# Altium schematic symbol library 10CX220YF780E6G.SchLib: 1 symbol
Pins are listed as number, name and electrical type; pins without a type are passive.

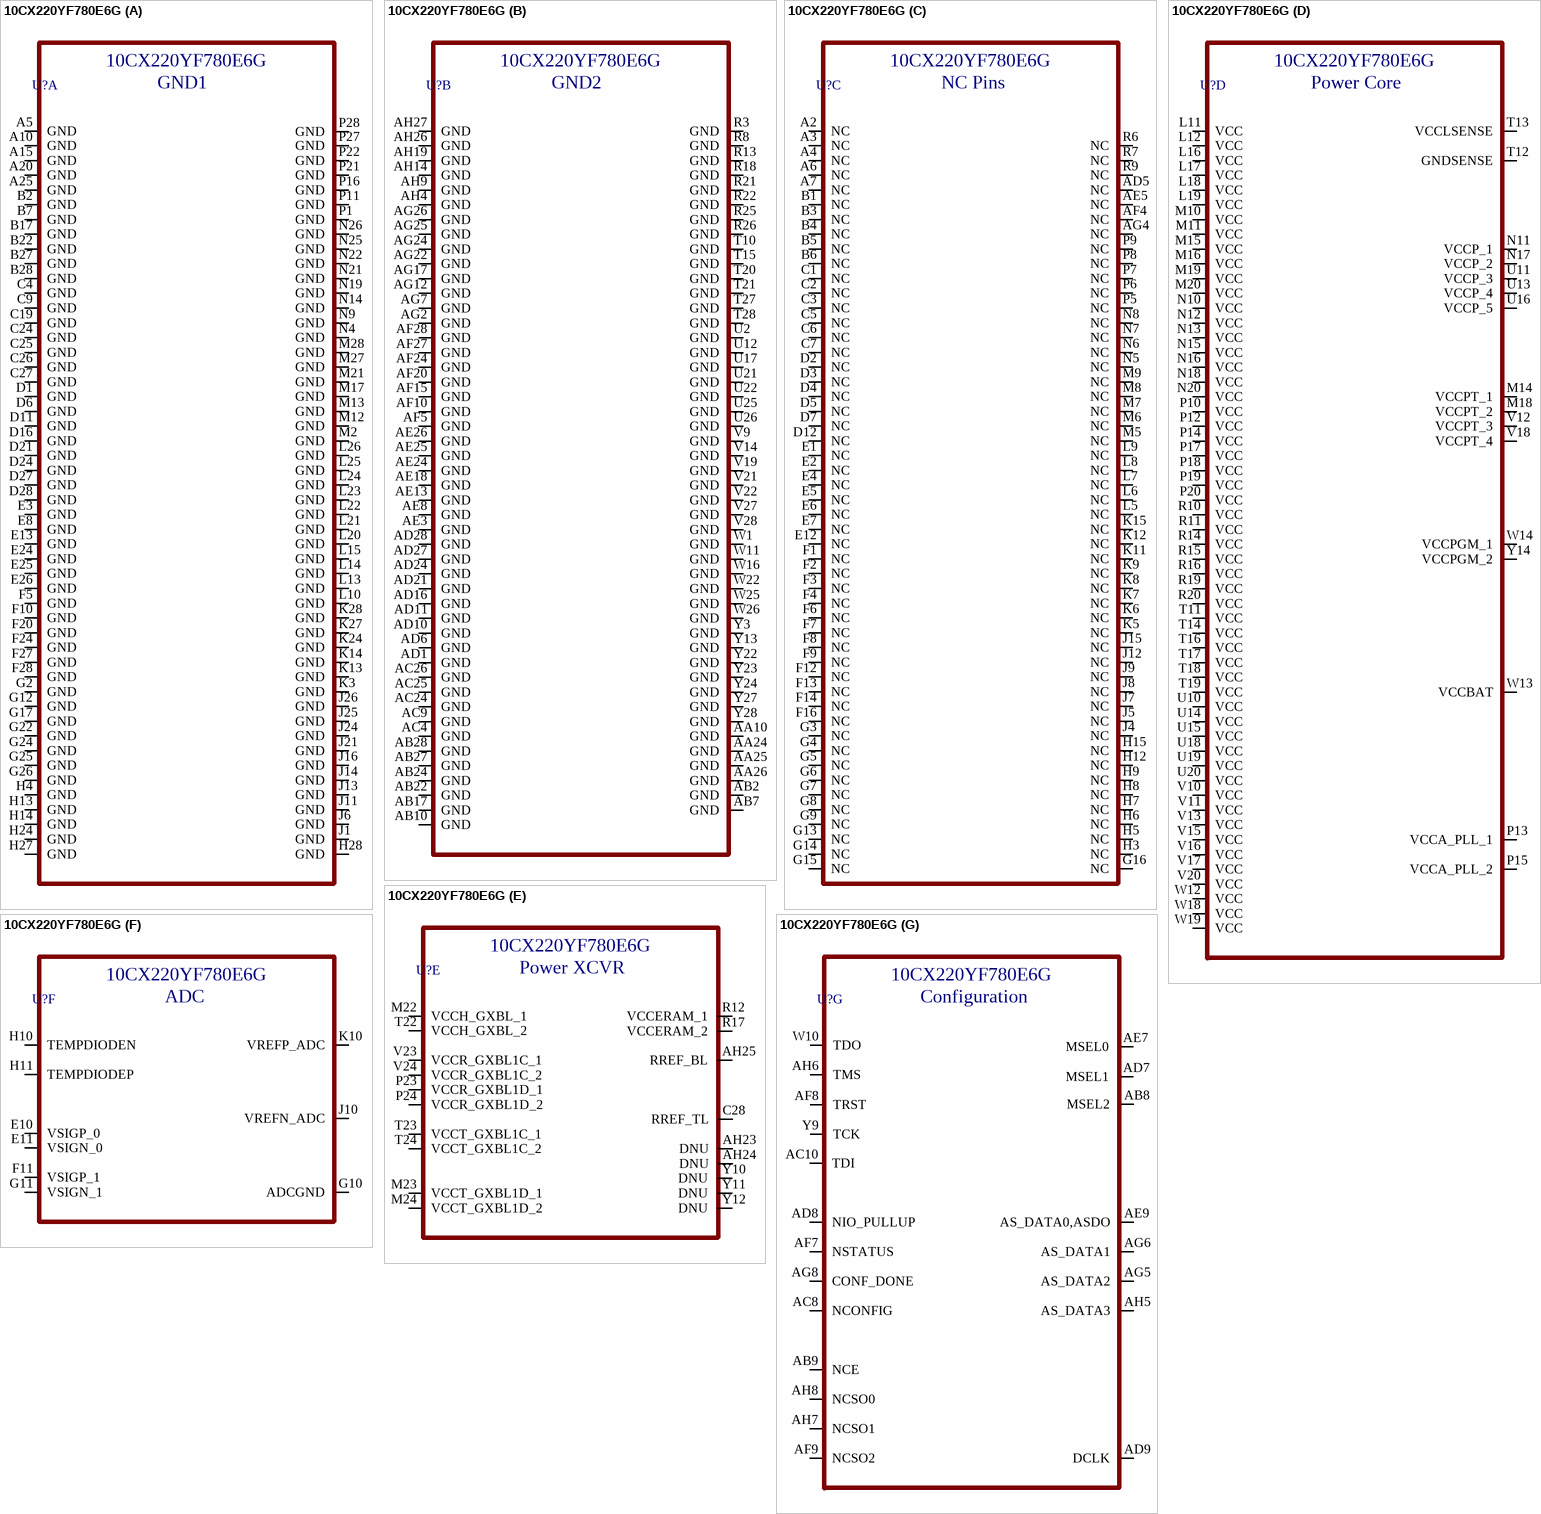
[diagram p0: symbol 10CX220YF780E6G]

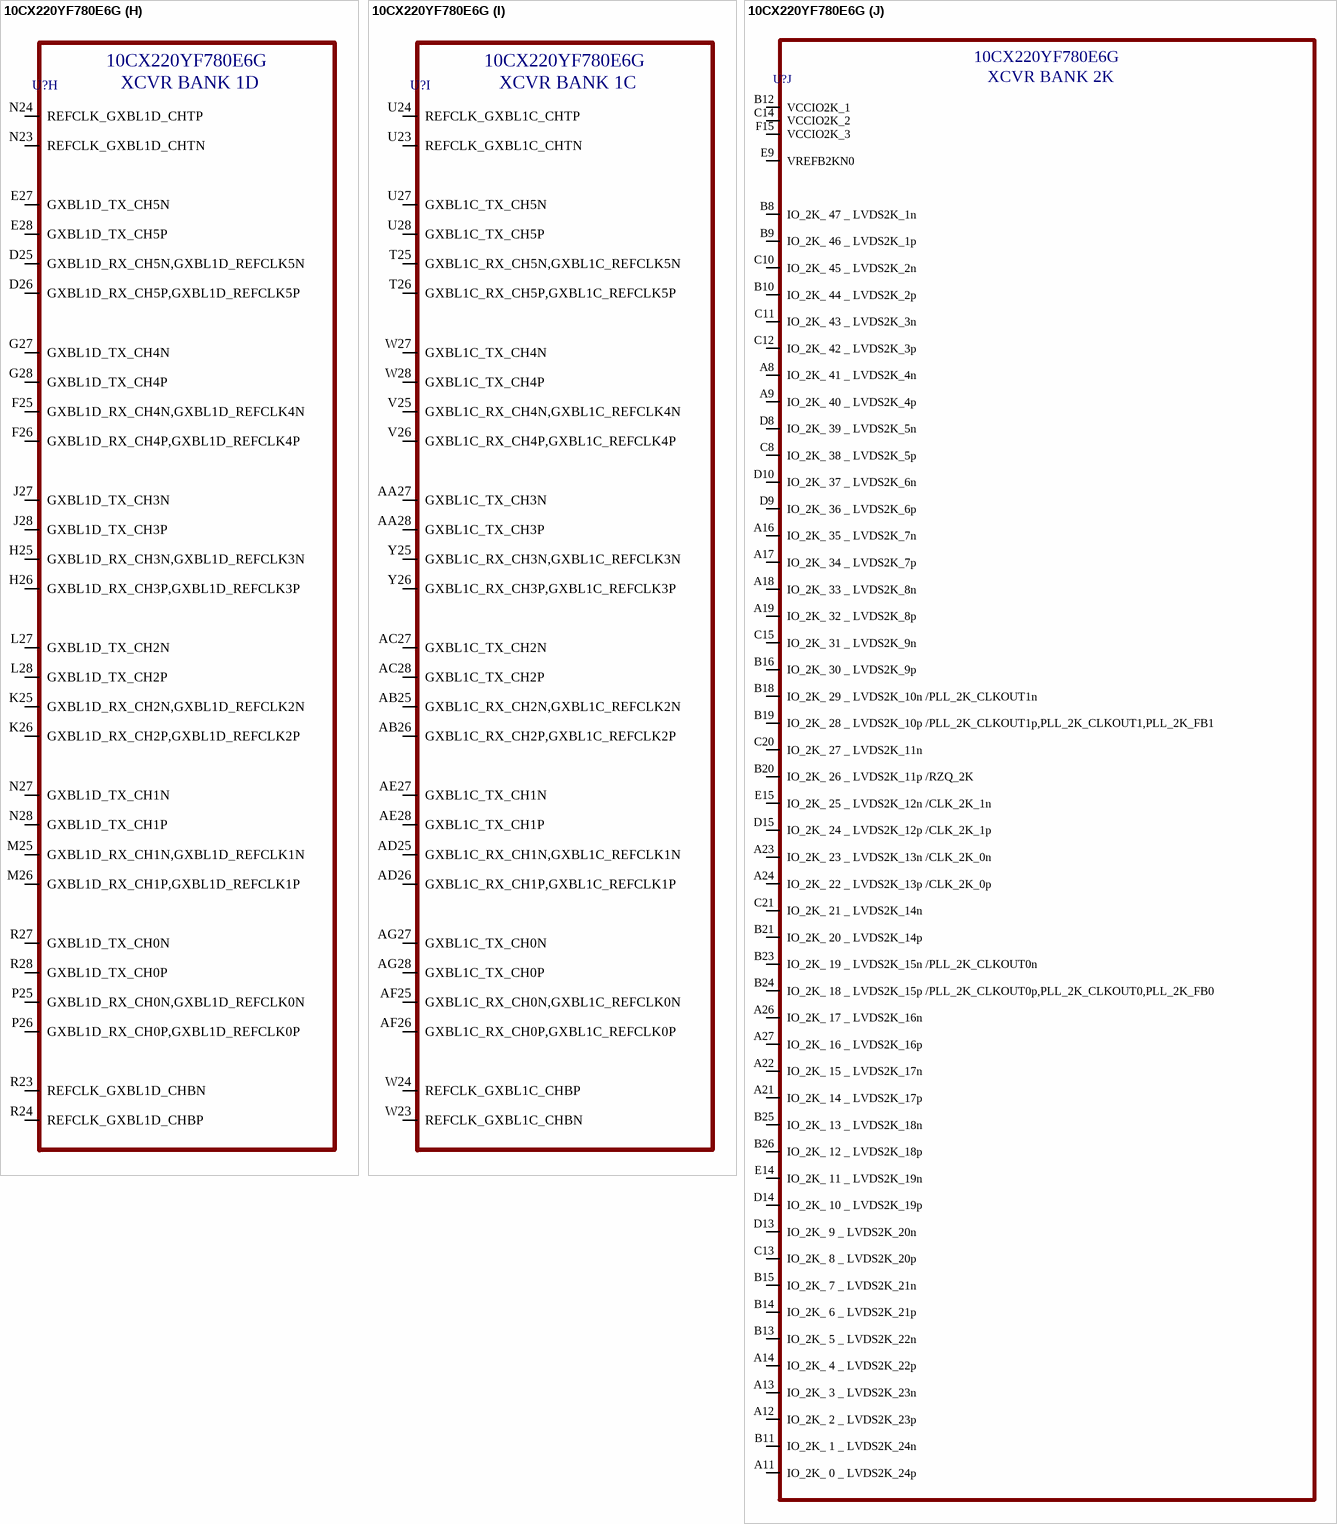
[diagram p1: symbol 10CX220YF780E6G]

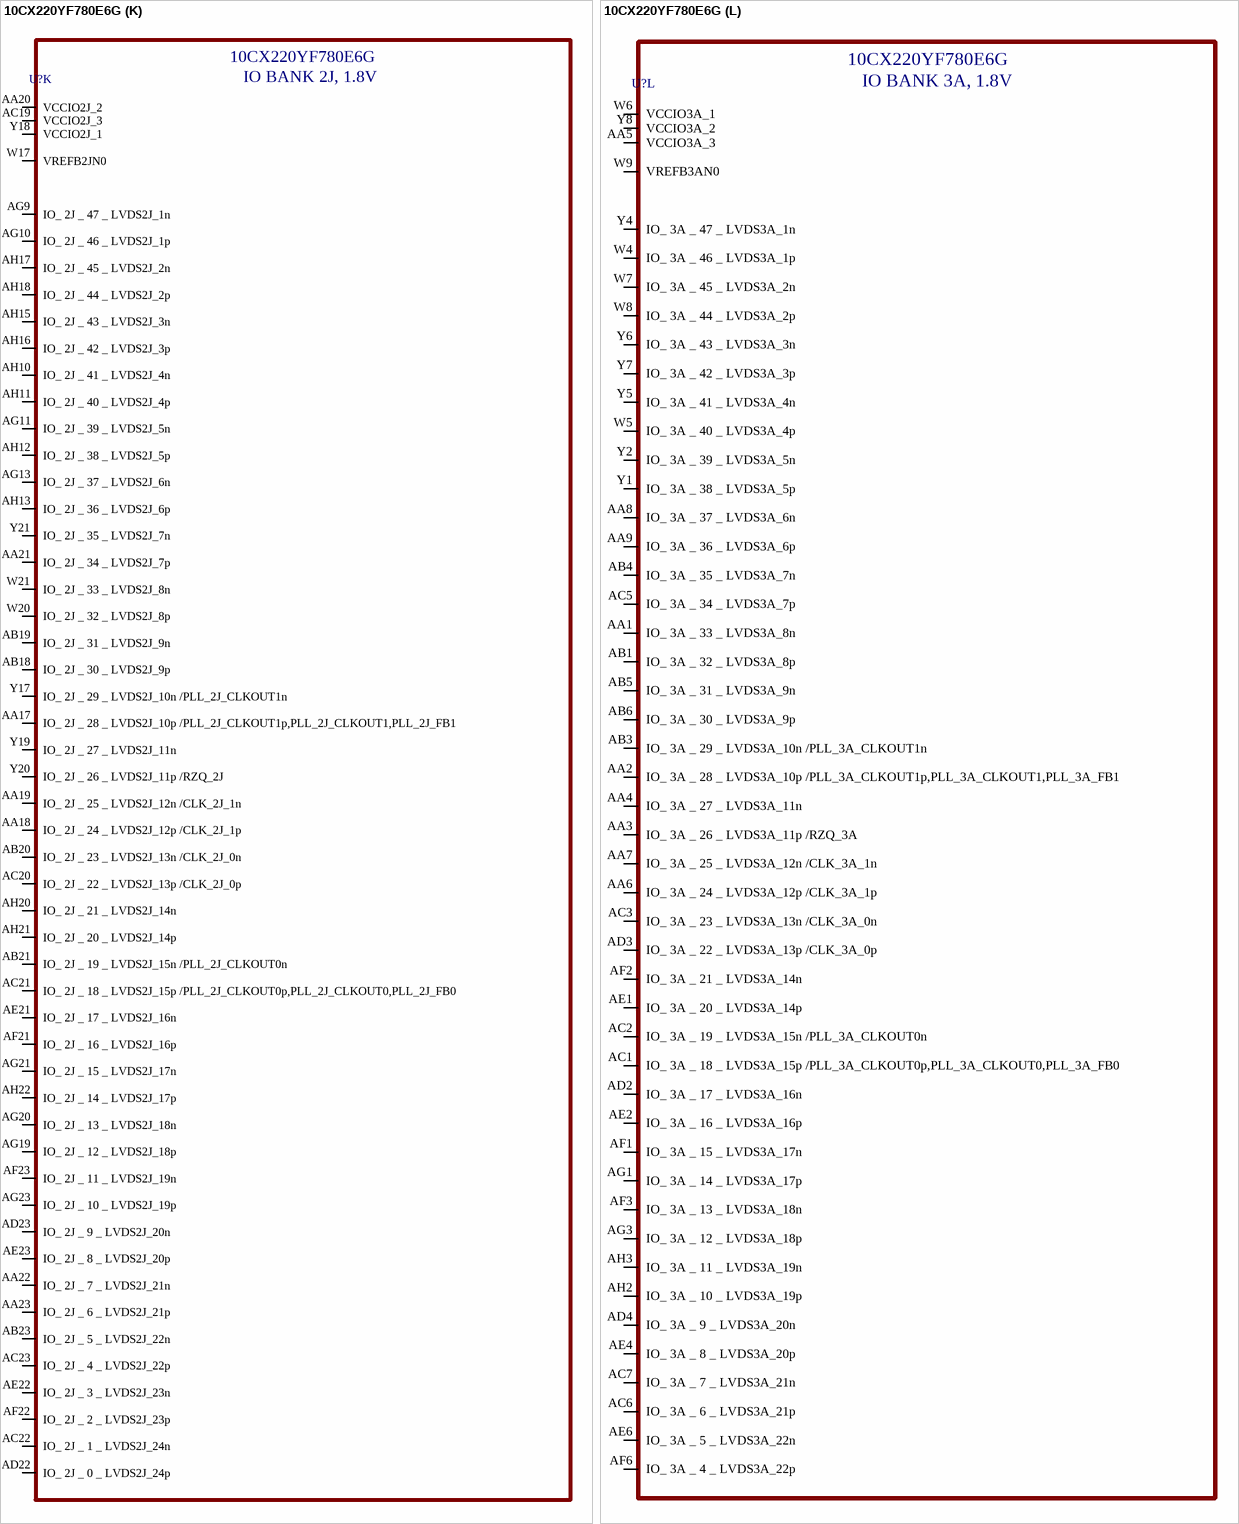
[diagram p2: symbol 10CX220YF780E6G]

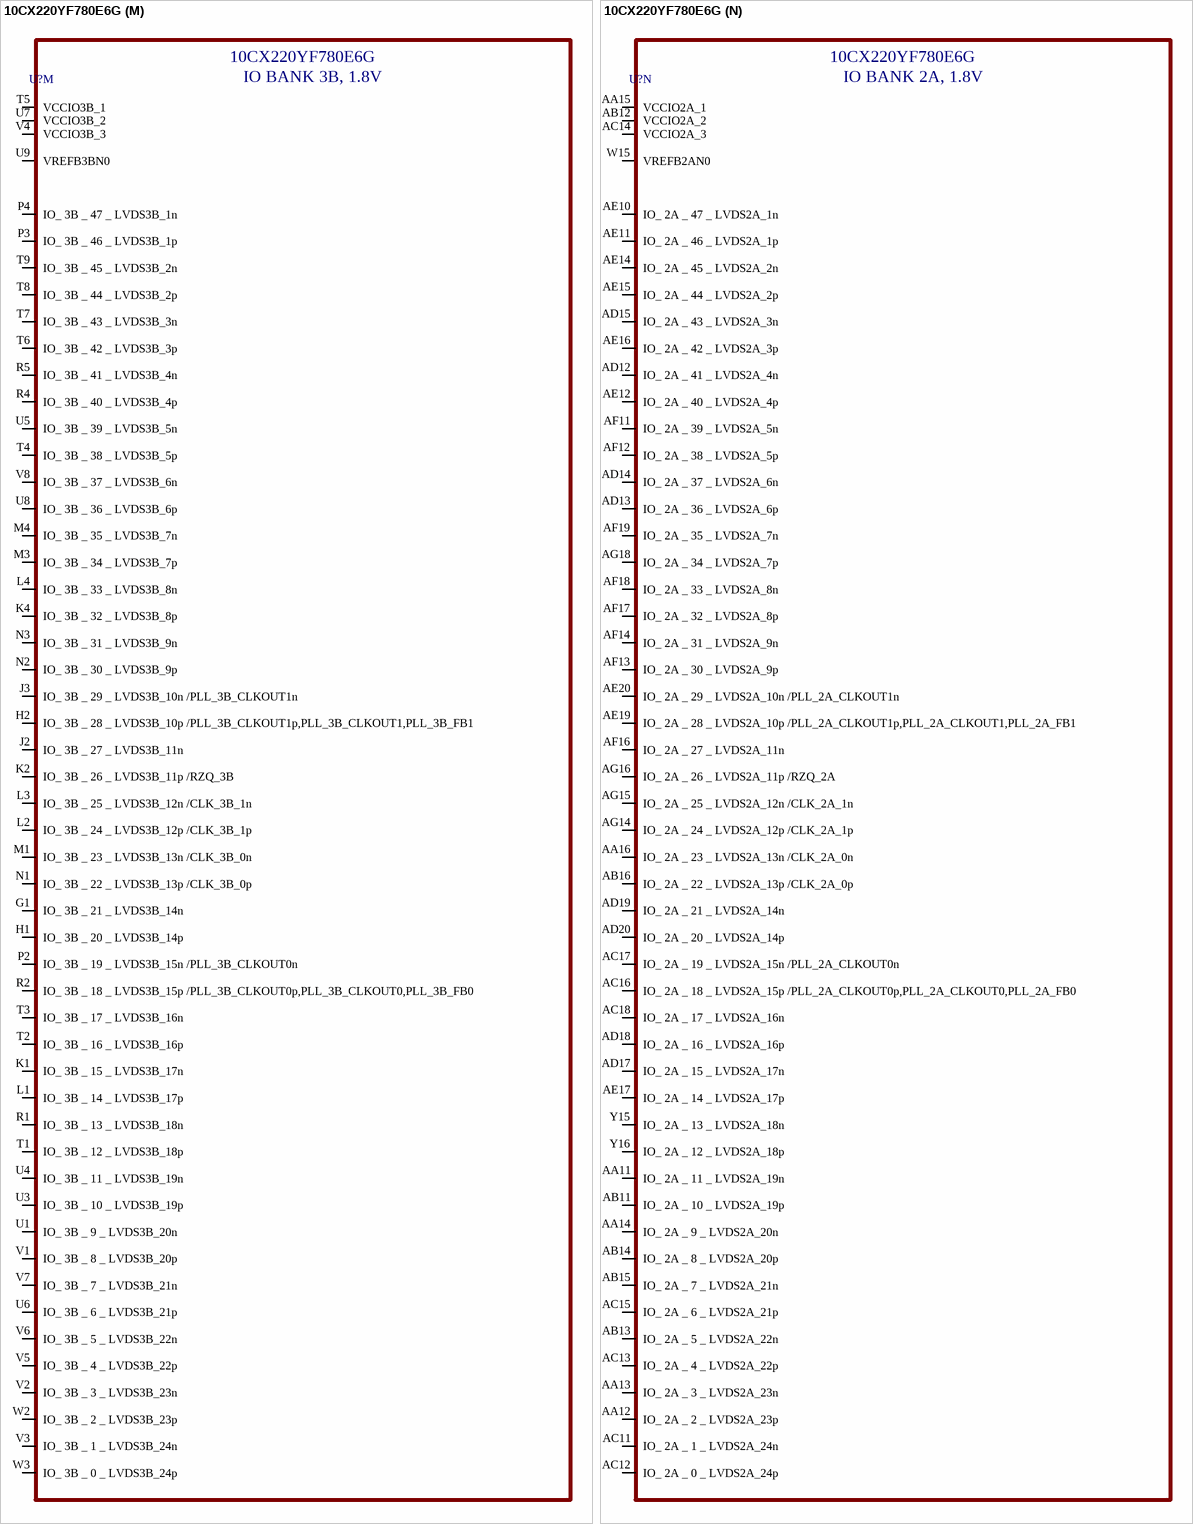
[diagram p3: symbol 10CX220YF780E6G]

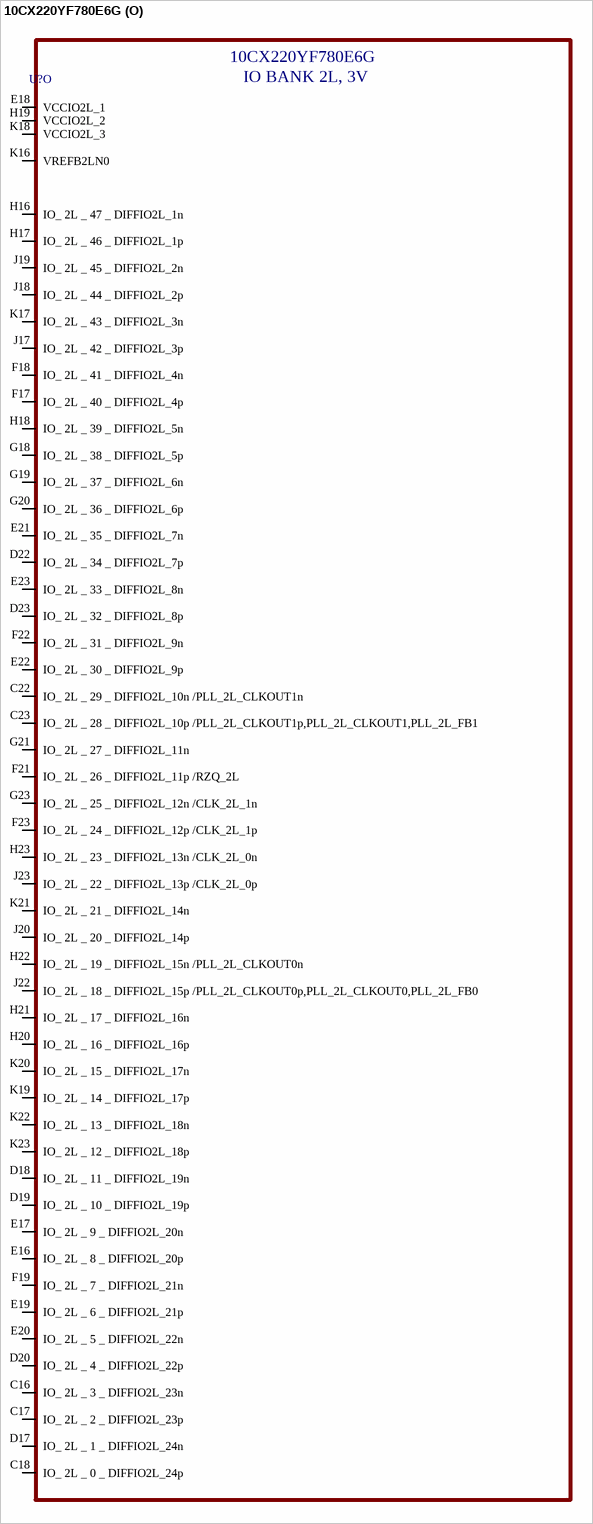
[diagram p4: symbol 10CX220YF780E6G]

## 10CX220YF780E6G
designator U?
part A pins: A5 GND, A10 GND, A15 GND, A20 GND, A25 GND, B2 GND, B7 GND, B17 GND, B22 GND, B27 GND, B28 GND, C4 GND, C9 GND, C19 GND, C24 GND, C25 GND, C26 GND, C27 GND, D1 GND, D6 GND, D11 GND, D16 GND, D21 GND, D24 GND, D27 GND, D28 GND, E3 GND, E8 GND, E13 GND, E24 GND, E25 GND, E26 GND, F5 GND, F10 GND, F20 GND, F24 GND, F27 GND, F28 GND, G2 GND, G12 GND, G17 GND, G22 GND, G24 GND, G25 GND, G26 GND, H4 GND, H13 GND, H14 GND, H24 GND, H27 GND, H28 GND, J1 GND, J6 GND, J11 GND, J13 GND, J14 GND, J16 GND, J21 GND, J24 GND, J25 GND, J26 GND, K3 GND, K13 GND, K14 GND, K24 GND, K27 GND, K28 GND, L10 GND, L13 GND, L14 GND, L15 GND, L20 GND, L21 GND, L22 GND, L23 GND, L24 GND, L25 GND, L26 GND, M2 GND, M12 GND, M13 GND, M17 GND, M21 GND, M27 GND, M28 GND, N4 GND, N9 GND, N14 GND, N19 GND, N21 GND, N22 GND, N25 GND, N26 GND, P1 GND, P11 GND, P16 GND, P21 GND, P22 GND, P27 GND, P28 GND
part B pins: AA10 GND, AA24 GND, AA25 GND, AA26 GND, AB2 GND, AB7 GND, AB10 GND, AB17 GND, AB22 GND, AB24 GND, AB27 GND, AB28 GND, AC4 GND, AC9 GND, AC24 GND, AC25 GND, AC26 GND, AD1 GND, AD6 GND, AD10 GND, AD11 GND, AD16 GND, AD21 GND, AD24 GND, AD27 GND, AD28 GND, AE3 GND, AE8 GND, AE13 GND, AE18 GND, AE24 GND, AE25 GND, AE26 GND, AF5 GND, AF10 GND, AF15 GND, AF20 GND, AF24 GND, AF27 GND, AF28 GND, AG2 GND, AG7 GND, AG12 GND, AG17 GND, AG22 GND, AG24 GND, AG25 GND, AG26 GND, AH4 GND, AH9 GND, AH14 GND, AH19 GND, AH26 GND, AH27 GND, R3 GND, R8 GND, R13 GND, R18 GND, R21 GND, R22 GND, R25 GND, R26 GND, T10 GND, T15 GND, T20 GND, T21 GND, T27 GND, T28 GND, U2 GND, U12 GND, U17 GND, U21 GND, U22 GND, U25 GND, U26 GND, V9 GND, V14 GND, V19 GND, V21 GND, V22 GND, V27 GND, V28 GND, W1 GND, W11 GND, W16 GND, W22 GND, W25 GND, W26 GND, Y3 GND, Y13 GND, Y22 GND, Y23 GND, Y24 GND, Y27 GND, Y28 GND
part C pins: A2 NC, A3 NC, A4 NC, A6 NC, A7 NC, AD5 NC, AE5 NC, AF4 NC, AG4 NC, B1 NC, B3 NC, B4 NC, B5 NC, B6 NC, C1 NC, C2 NC, C3 NC, C5 NC, C6 NC, C7 NC, D2 NC, D3 NC, D4 NC, D5 NC, D7 NC, D12 NC, E1 NC, E2 NC, E4 NC, E5 NC, E6 NC, E7 NC, E12 NC, F1 NC, F2 NC, F3 NC, F4 NC, F6 NC, F7 NC, F8 NC, F9 NC, F12 NC, F13 NC, F14 NC, F16 NC, G3 NC, G4 NC, G5 NC, G6 NC, G7 NC, G8 NC, G9 NC, G13 NC, G14 NC, G15 NC, G16 NC, H3 NC, H5 NC, H6 NC, H7 NC, H8 NC, H9 NC, H12 NC, H15 NC, J4 NC, J5 NC, J7 NC, J8 NC, J9 NC, J12 NC, J15 NC, K5 NC, K6 NC, K7 NC, K8 NC, K9 NC, K11 NC, K12 NC, K15 NC, L5 NC, L6 NC, L7 NC, L8 NC, L9 NC, M5 NC, M6 NC, M7 NC, M8 NC, M9 NC, N5 NC, N6 NC, N7 NC, N8 NC, P5 NC, P6 NC, P7 NC, P8 NC, P9 NC, R6 NC, R7 NC, R9 NC
part D pins: L11 VCC, L12 VCC, L16 VCC, L17 VCC, L18 VCC, L19 VCC, M10 VCC, M11 VCC, M14 VCCPT_1, M15 VCC, M16 VCC, M18 VCCPT_2, M19 VCC, M20 VCC, N10 VCC, N11 VCCP_1, N12 VCC, N13 VCC, N15 VCC, N16 VCC, N17 VCCP_2, N18 VCC, N20 VCC, P10 VCC, P12 VCC, P13 VCCA_PLL_1, P14 VCC, P15 VCCA_PLL_2, P17 VCC, P18 VCC, P19 VCC, P20 VCC, R10 VCC, R11 VCC, R14 VCC, R15 VCC, R16 VCC, R19 VCC, R20 VCC, T11 VCC, T12 GNDSENSE, T13 VCCLSENSE, T14 VCC, T16 VCC, T17 VCC, T18 VCC, T19 VCC, U10 VCC, U11 VCCP_3, U13 VCCP_4, U14 VCC, U15 VCC, U16 VCCP_5, U18 VCC, U19 VCC, U20 VCC, V10 VCC, V11 VCC, V12 VCCPT_3, V13 VCC, V15 VCC, V16 VCC, V17 VCC, V18 VCCPT_4, V20 VCC, W12 VCC, W13 VCCBAT, W14 VCCPGM_1, W18 VCC, W19 VCC, Y14 VCCPGM_2
part E pins: AH23 DNU, AH24 DNU, AH25 RREF_BL, C28 RREF_TL, M22 VCCH_GXBL_1, M23 VCCT_GXBL1D_1, M24 VCCT_GXBL1D_2, P23 VCCR_GXBL1D_1, P24 VCCR_GXBL1D_2, R12 VCCERAM_1, R17 VCCERAM_2, T22 VCCH_GXBL_2, T23 VCCT_GXBL1C_1, T24 VCCT_GXBL1C_2, V23 VCCR_GXBL1C_1, V24 VCCR_GXBL1C_2, Y10 DNU, Y11 DNU, Y12 DNU
part F pins: E10 VSIGP_0, E11 VSIGN_0, F11 VSIGP_1, G10 ADCGND, G11 VSIGN_1, H10 TEMPDIODEN, H11 TEMPDIODEP, J10 VREFN_ADC, K10 VREFP_ADC
part G pins: AB8 MSEL2, AB9 NCE, AC8 NCONFIG, AC10 TDI, AD7 MSEL1, AD8 NIO_PULLUP, AD9 DCLK, AE7 MSEL0, AE9 AS_DATA0,ASDO, AF7 NSTATUS, AF8 TRST, AF9 NCSO2, AG5 AS_DATA2, AG6 AS_DATA1, AG8 CONF_DONE, AH5 AS_DATA3, AH6 TMS, AH7 NCSO1, AH8 NCSO0, W10 TDO, Y9 TCK
part H pins: D25 GXBL1D_RX_CH5N,GXBL1D_REFCLK5N, D26 GXBL1D_RX_CH5P,GXBL1D_REFCLK5P, E27 GXBL1D_TX_CH5N, E28 GXBL1D_TX_CH5P, F25 GXBL1D_RX_CH4N,GXBL1D_REFCLK4N, F26 GXBL1D_RX_CH4P,GXBL1D_REFCLK4P, G27 GXBL1D_TX_CH4N, G28 GXBL1D_TX_CH4P, H25 GXBL1D_RX_CH3N,GXBL1D_REFCLK3N, H26 GXBL1D_RX_CH3P,GXBL1D_REFCLK3P, J27 GXBL1D_TX_CH3N, J28 GXBL1D_TX_CH3P, K25 GXBL1D_RX_CH2N,GXBL1D_REFCLK2N, K26 GXBL1D_RX_CH2P,GXBL1D_REFCLK2P, L27 GXBL1D_TX_CH2N, L28 GXBL1D_TX_CH2P, M25 GXBL1D_RX_CH1N,GXBL1D_REFCLK1N, M26 GXBL1D_RX_CH1P,GXBL1D_REFCLK1P, N23 REFCLK_GXBL1D_CHTN, N24 REFCLK_GXBL1D_CHTP, N27 GXBL1D_TX_CH1N, N28 GXBL1D_TX_CH1P, P25 GXBL1D_RX_CH0N,GXBL1D_REFCLK0N, P26 GXBL1D_RX_CH0P,GXBL1D_REFCLK0P, R23 REFCLK_GXBL1D_CHBN, R24 REFCLK_GXBL1D_CHBP, R27 GXBL1D_TX_CH0N, R28 GXBL1D_TX_CH0P
part I pins: AA27 GXBL1C_TX_CH3N, AA28 GXBL1C_TX_CH3P, AB25 GXBL1C_RX_CH2N,GXBL1C_REFCLK2N, AB26 GXBL1C_RX_CH2P,GXBL1C_REFCLK2P, AC27 GXBL1C_TX_CH2N, AC28 GXBL1C_TX_CH2P, AD25 GXBL1C_RX_CH1N,GXBL1C_REFCLK1N, AD26 GXBL1C_RX_CH1P,GXBL1C_REFCLK1P, AE27 GXBL1C_TX_CH1N, AE28 GXBL1C_TX_CH1P, AF25 GXBL1C_RX_CH0N,GXBL1C_REFCLK0N, AF26 GXBL1C_RX_CH0P,GXBL1C_REFCLK0P, AG27 GXBL1C_TX_CH0N, AG28 GXBL1C_TX_CH0P, T25 GXBL1C_RX_CH5N,GXBL1C_REFCLK5N, T26 GXBL1C_RX_CH5P,GXBL1C_REFCLK5P, U23 REFCLK_GXBL1C_CHTN, U24 REFCLK_GXBL1C_CHTP, U27 GXBL1C_TX_CH5N, U28 GXBL1C_TX_CH5P, V25 GXBL1C_RX_CH4N,GXBL1C_REFCLK4N, V26 GXBL1C_RX_CH4P,GXBL1C_REFCLK4P, W23 REFCLK_GXBL1C_CHBN, W24 REFCLK_GXBL1C_CHBP, W27 GXBL1C_TX_CH4N, W28 GXBL1C_TX_CH4P, Y25 GXBL1C_RX_CH3N,GXBL1C_REFCLK3N, Y26 GXBL1C_RX_CH3P,GXBL1C_REFCLK3P
part J pins: A8 IO_2K_ 41 _ LVDS2K_4n , A9 IO_2K_ 40 _ LVDS2K_4p , A11 IO_2K_ 0 _ LVDS2K_24p , A12 IO_2K_ 2 _ LVDS2K_23p , A13 IO_2K_ 3 _ LVDS2K_23n , A14 IO_2K_ 4 _ LVDS2K_22p , A16 IO_2K_ 35 _ LVDS2K_7n , A17 IO_2K_ 34 _ LVDS2K_7p , A18 IO_2K_ 33 _ LVDS2K_8n , A19 IO_2K_ 32 _ LVDS2K_8p , A21 IO_2K_ 14 _ LVDS2K_17p , A22 IO_2K_ 15 _ LVDS2K_17n , A23 IO_2K_ 23 _ LVDS2K_13n /CLK_2K_0n, A24 IO_2K_ 22 _ LVDS2K_13p /CLK_2K_0p, A26 IO_2K_ 17 _ LVDS2K_16n , A27 IO_2K_ 16 _ LVDS2K_16p , B8 IO_2K_ 47 _ LVDS2K_1n , B9 IO_2K_ 46 _ LVDS2K_1p , B10 IO_2K_ 44 _ LVDS2K_2p , B11 IO_2K_ 1 _ LVDS2K_24n , B12 VCCIO2K_1, B13 IO_2K_ 5 _ LVDS2K_22n , B14 IO_2K_ 6 _ LVDS2K_21p , B15 IO_2K_ 7 _ LVDS2K_21n , B16 IO_2K_ 30 _ LVDS2K_9p , B18 IO_2K_ 29 _ LVDS2K_10n /PLL_2K_CLKOUT1n, B19 IO_2K_ 28 _ LVDS2K_10p /PLL_2K_CLKOUT1p,PLL_2K_CLKOUT1,PLL_2K_FB1, B20 IO_2K_ 26 _ LVDS2K_11p /RZQ_2K, B21 IO_2K_ 20 _ LVDS2K_14p , B23 IO_2K_ 19 _ LVDS2K_15n /PLL_2K_CLKOUT0n, B24 IO_2K_ 18 _ LVDS2K_15p /PLL_2K_CLKOUT0p,PLL_2K_CLKOUT0,PLL_2K_FB0, B25 IO_2K_ 13 _ LVDS2K_18n , B26 IO_2K_ 12 _ LVDS2K_18p , C8 IO_2K_ 38 _ LVDS2K_5p , C10 IO_2K_ 45 _ LVDS2K_2n , C11 IO_2K_ 43 _ LVDS2K_3n , C12 IO_2K_ 42 _ LVDS2K_3p , C13 IO_2K_ 8 _ LVDS2K_20p , C14 VCCIO2K_2, C15 IO_2K_ 31 _ LVDS2K_9n , C20 IO_2K_ 27 _ LVDS2K_11n , C21 IO_2K_ 21 _ LVDS2K_14n , D8 IO_2K_ 39 _ LVDS2K_5n , D9 IO_2K_ 36 _ LVDS2K_6p , D10 IO_2K_ 37 _ LVDS2K_6n , D13 IO_2K_ 9 _ LVDS2K_20n , D14 IO_2K_ 10 _ LVDS2K_19p , D15 IO_2K_ 24 _ LVDS2K_12p /CLK_2K_1p, E9 VREFB2KN0, E14 IO_2K_ 11 _ LVDS2K_19n , E15 IO_2K_ 25 _ LVDS2K_12n /CLK_2K_1n, F15 VCCIO2K_3
part K pins: AA17 IO_ 2J _ 28 _ LVDS2J_10p /PLL_2J_CLKOUT1p,PLL_2J_CLKOUT1,PLL_2J_FB1, AA18 IO_ 2J _ 24 _ LVDS2J_12p /CLK_2J_1p, AA19 IO_ 2J _ 25 _ LVDS2J_12n /CLK_2J_1n, AA20 VCCIO2J_2, AA21 IO_ 2J _ 34 _ LVDS2J_7p , AA22 IO_ 2J _ 7 _ LVDS2J_21n , AA23 IO_ 2J _ 6 _ LVDS2J_21p , AB18 IO_ 2J _ 30 _ LVDS2J_9p , AB19 IO_ 2J _ 31 _ LVDS2J_9n , AB20 IO_ 2J _ 23 _ LVDS2J_13n /CLK_2J_0n, AB21 IO_ 2J _ 19 _ LVDS2J_15n /PLL_2J_CLKOUT0n, AB23 IO_ 2J _ 5 _ LVDS2J_22n , AC19 VCCIO2J_3, AC20 IO_ 2J _ 22 _ LVDS2J_13p /CLK_2J_0p, AC21 IO_ 2J _ 18 _ LVDS2J_15p /PLL_2J_CLKOUT0p,PLL_2J_CLKOUT0,PLL_2J_FB0, AC22 IO_ 2J _ 1 _ LVDS2J_24n , AC23 IO_ 2J _ 4 _ LVDS2J_22p , AD22 IO_ 2J _ 0 _ LVDS2J_24p , AD23 IO_ 2J _ 9 _ LVDS2J_20n , AE21 IO_ 2J _ 17 _ LVDS2J_16n , AE22 IO_ 2J _ 3 _ LVDS2J_23n , AE23 IO_ 2J _ 8 _ LVDS2J_20p , AF21 IO_ 2J _ 16 _ LVDS2J_16p , AF22 IO_ 2J _ 2 _ LVDS2J_23p , AF23 IO_ 2J _ 11 _ LVDS2J_19n , AG9 IO_ 2J _ 47 _ LVDS2J_1n , AG10 IO_ 2J _ 46 _ LVDS2J_1p , AG11 IO_ 2J _ 39 _ LVDS2J_5n , AG13 IO_ 2J _ 37 _ LVDS2J_6n , AG19 IO_ 2J _ 12 _ LVDS2J_18p , AG20 IO_ 2J _ 13 _ LVDS2J_18n , AG21 IO_ 2J _ 15 _ LVDS2J_17n , AG23 IO_ 2J _ 10 _ LVDS2J_19p , AH10 IO_ 2J _ 41 _ LVDS2J_4n , AH11 IO_ 2J _ 40 _ LVDS2J_4p , AH12 IO_ 2J _ 38 _ LVDS2J_5p , AH13 IO_ 2J _ 36 _ LVDS2J_6p , AH15 IO_ 2J _ 43 _ LVDS2J_3n , AH16 IO_ 2J _ 42 _ LVDS2J_3p , AH17 IO_ 2J _ 45 _ LVDS2J_2n , AH18 IO_ 2J _ 44 _ LVDS2J_2p , AH20 IO_ 2J _ 21 _ LVDS2J_14n , AH21 IO_ 2J _ 20 _ LVDS2J_14p , AH22 IO_ 2J _ 14 _ LVDS2J_17p , W17 VREFB2JN0, W20 IO_ 2J _ 32 _ LVDS2J_8p , W21 IO_ 2J _ 33 _ LVDS2J_8n , Y17 IO_ 2J _ 29 _ LVDS2J_10n /PLL_2J_CLKOUT1n, Y18 VCCIO2J_1, Y19 IO_ 2J _ 27 _ LVDS2J_11n , Y20 IO_ 2J _ 26 _ LVDS2J_11p /RZQ_2J, Y21 IO_ 2J _ 35 _ LVDS2J_7n 
part L pins: AA1 IO_ 3A _ 33 _ LVDS3A_8n , AA2 IO_ 3A _ 28 _ LVDS3A_10p /PLL_3A_CLKOUT1p,PLL_3A_CLKOUT1,PLL_3A_FB1, AA3 IO_ 3A _ 26 _ LVDS3A_11p /RZQ_3A, AA4 IO_ 3A _ 27 _ LVDS3A_11n , AA5 VCCIO3A_3, AA6 IO_ 3A _ 24 _ LVDS3A_12p /CLK_3A_1p, AA7 IO_ 3A _ 25 _ LVDS3A_12n /CLK_3A_1n, AA8 IO_ 3A _ 37 _ LVDS3A_6n , AA9 IO_ 3A _ 36 _ LVDS3A_6p , AB1 IO_ 3A _ 32 _ LVDS3A_8p , AB3 IO_ 3A _ 29 _ LVDS3A_10n /PLL_3A_CLKOUT1n, AB4 IO_ 3A _ 35 _ LVDS3A_7n , AB5 IO_ 3A _ 31 _ LVDS3A_9n , AB6 IO_ 3A _ 30 _ LVDS3A_9p , AC1 IO_ 3A _ 18 _ LVDS3A_15p /PLL_3A_CLKOUT0p,PLL_3A_CLKOUT0,PLL_3A_FB0, AC2 IO_ 3A _ 19 _ LVDS3A_15n /PLL_3A_CLKOUT0n, AC3 IO_ 3A _ 23 _ LVDS3A_13n /CLK_3A_0n, AC5 IO_ 3A _ 34 _ LVDS3A_7p , AC6 IO_ 3A _ 6 _ LVDS3A_21p , AC7 IO_ 3A _ 7 _ LVDS3A_21n , AD2 IO_ 3A _ 17 _ LVDS3A_16n , AD3 IO_ 3A _ 22 _ LVDS3A_13p /CLK_3A_0p, AD4 IO_ 3A _ 9 _ LVDS3A_20n , AE1 IO_ 3A _ 20 _ LVDS3A_14p , AE2 IO_ 3A _ 16 _ LVDS3A_16p , AE4 IO_ 3A _ 8 _ LVDS3A_20p , AE6 IO_ 3A _ 5 _ LVDS3A_22n , AF1 IO_ 3A _ 15 _ LVDS3A_17n , AF2 IO_ 3A _ 21 _ LVDS3A_14n , AF3 IO_ 3A _ 13 _ LVDS3A_18n , AF6 IO_ 3A _ 4 _ LVDS3A_22p , AG1 IO_ 3A _ 14 _ LVDS3A_17p , AG3 IO_ 3A _ 12 _ LVDS3A_18p , AH2 IO_ 3A _ 10 _ LVDS3A_19p , AH3 IO_ 3A _ 11 _ LVDS3A_19n , W4 IO_ 3A _ 46 _ LVDS3A_1p , W5 IO_ 3A _ 40 _ LVDS3A_4p , W6 VCCIO3A_1, W7 IO_ 3A _ 45 _ LVDS3A_2n , W8 IO_ 3A _ 44 _ LVDS3A_2p , W9 VREFB3AN0, Y1 IO_ 3A _ 38 _ LVDS3A_5p , Y2 IO_ 3A _ 39 _ LVDS3A_5n , Y4 IO_ 3A _ 47 _ LVDS3A_1n , Y5 IO_ 3A _ 41 _ LVDS3A_4n , Y6 IO_ 3A _ 43 _ LVDS3A_3n , Y7 IO_ 3A _ 42 _ LVDS3A_3p , Y8 VCCIO3A_2
part M pins: G1 IO_ 3B _ 21 _ LVDS3B_14n , H1 IO_ 3B _ 20 _ LVDS3B_14p , H2 IO_ 3B _ 28 _ LVDS3B_10p /PLL_3B_CLKOUT1p,PLL_3B_CLKOUT1,PLL_3B_FB1, J2 IO_ 3B _ 27 _ LVDS3B_11n , J3 IO_ 3B _ 29 _ LVDS3B_10n /PLL_3B_CLKOUT1n, K1 IO_ 3B _ 15 _ LVDS3B_17n , K2 IO_ 3B _ 26 _ LVDS3B_11p /RZQ_3B, K4 IO_ 3B _ 32 _ LVDS3B_8p , L1 IO_ 3B _ 14 _ LVDS3B_17p , L2 IO_ 3B _ 24 _ LVDS3B_12p /CLK_3B_1p, L3 IO_ 3B _ 25 _ LVDS3B_12n /CLK_3B_1n, L4 IO_ 3B _ 33 _ LVDS3B_8n , M1 IO_ 3B _ 23 _ LVDS3B_13n /CLK_3B_0n, M3 IO_ 3B _ 34 _ LVDS3B_7p , M4 IO_ 3B _ 35 _ LVDS3B_7n , N1 IO_ 3B _ 22 _ LVDS3B_13p /CLK_3B_0p, N2 IO_ 3B _ 30 _ LVDS3B_9p , N3 IO_ 3B _ 31 _ LVDS3B_9n , P2 IO_ 3B _ 19 _ LVDS3B_15n /PLL_3B_CLKOUT0n, P3 IO_ 3B _ 46 _ LVDS3B_1p , P4 IO_ 3B _ 47 _ LVDS3B_1n , R1 IO_ 3B _ 13 _ LVDS3B_18n , R2 IO_ 3B _ 18 _ LVDS3B_15p /PLL_3B_CLKOUT0p,PLL_3B_CLKOUT0,PLL_3B_FB0, R4 IO_ 3B _ 40 _ LVDS3B_4p , R5 IO_ 3B _ 41 _ LVDS3B_4n , T1 IO_ 3B _ 12 _ LVDS3B_18p , T2 IO_ 3B _ 16 _ LVDS3B_16p , T3 IO_ 3B _ 17 _ LVDS3B_16n , T4 IO_ 3B _ 38 _ LVDS3B_5p , T5 VCCIO3B_1, T6 IO_ 3B _ 42 _ LVDS3B_3p , T7 IO_ 3B _ 43 _ LVDS3B_3n , T8 IO_ 3B _ 44 _ LVDS3B_2p , T9 IO_ 3B _ 45 _ LVDS3B_2n , U1 IO_ 3B _ 9 _ LVDS3B_20n , U3 IO_ 3B _ 10 _ LVDS3B_19p , U4 IO_ 3B _ 11 _ LVDS3B_19n , U5 IO_ 3B _ 39 _ LVDS3B_5n , U6 IO_ 3B _ 6 _ LVDS3B_21p , U7 VCCIO3B_2, U8 IO_ 3B _ 36 _ LVDS3B_6p , U9 VREFB3BN0, V1 IO_ 3B _ 8 _ LVDS3B_20p , V2 IO_ 3B _ 3 _ LVDS3B_23n , V3 IO_ 3B _ 1 _ LVDS3B_24n , V4 VCCIO3B_3, V5 IO_ 3B _ 4 _ LVDS3B_22p , V6 IO_ 3B _ 5 _ LVDS3B_22n , V7 IO_ 3B _ 7 _ LVDS3B_21n , V8 IO_ 3B _ 37 _ LVDS3B_6n , W2 IO_ 3B _ 2 _ LVDS3B_23p , W3 IO_ 3B _ 0 _ LVDS3B_24p 
part N pins: AA11 IO_ 2A _ 11 _ LVDS2A_19n , AA12 IO_ 2A _ 2 _ LVDS2A_23p , AA13 IO_ 2A _ 3 _ LVDS2A_23n , AA14 IO_ 2A _ 9 _ LVDS2A_20n , AA15 VCCIO2A_1, AA16 IO_ 2A _ 23 _ LVDS2A_13n /CLK_2A_0n, AB11 IO_ 2A _ 10 _ LVDS2A_19p , AB12 VCCIO2A_2, AB13 IO_ 2A _ 5 _ LVDS2A_22n , AB14 IO_ 2A _ 8 _ LVDS2A_20p , AB15 IO_ 2A _ 7 _ LVDS2A_21n , AB16 IO_ 2A _ 22 _ LVDS2A_13p /CLK_2A_0p, AC11 IO_ 2A _ 1 _ LVDS2A_24n , AC12 IO_ 2A _ 0 _ LVDS2A_24p , AC13 IO_ 2A _ 4 _ LVDS2A_22p , AC14 VCCIO2A_3, AC15 IO_ 2A _ 6 _ LVDS2A_21p , AC16 IO_ 2A _ 18 _ LVDS2A_15p /PLL_2A_CLKOUT0p,PLL_2A_CLKOUT0,PLL_2A_FB0, AC17 IO_ 2A _ 19 _ LVDS2A_15n /PLL_2A_CLKOUT0n, AC18 IO_ 2A _ 17 _ LVDS2A_16n , AD12 IO_ 2A _ 41 _ LVDS2A_4n , AD13 IO_ 2A _ 36 _ LVDS2A_6p , AD14 IO_ 2A _ 37 _ LVDS2A_6n , AD15 IO_ 2A _ 43 _ LVDS2A_3n , AD17 IO_ 2A _ 15 _ LVDS2A_17n , AD18 IO_ 2A _ 16 _ LVDS2A_16p , AD19 IO_ 2A _ 21 _ LVDS2A_14n , AD20 IO_ 2A _ 20 _ LVDS2A_14p , AE10 IO_ 2A _ 47 _ LVDS2A_1n , AE11 IO_ 2A _ 46 _ LVDS2A_1p , AE12 IO_ 2A _ 40 _ LVDS2A_4p , AE14 IO_ 2A _ 45 _ LVDS2A_2n , AE15 IO_ 2A _ 44 _ LVDS2A_2p , AE16 IO_ 2A _ 42 _ LVDS2A_3p , AE17 IO_ 2A _ 14 _ LVDS2A_17p , AE19 IO_ 2A _ 28 _ LVDS2A_10p /PLL_2A_CLKOUT1p,PLL_2A_CLKOUT1,PLL_2A_FB1, AE20 IO_ 2A _ 29 _ LVDS2A_10n /PLL_2A_CLKOUT1n, AF11 IO_ 2A _ 39 _ LVDS2A_5n , AF12 IO_ 2A _ 38 _ LVDS2A_5p , AF13 IO_ 2A _ 30 _ LVDS2A_9p , AF14 IO_ 2A _ 31 _ LVDS2A_9n , AF16 IO_ 2A _ 27 _ LVDS2A_11n , AF17 IO_ 2A _ 32 _ LVDS2A_8p , AF18 IO_ 2A _ 33 _ LVDS2A_8n , AF19 IO_ 2A _ 35 _ LVDS2A_7n , AG14 IO_ 2A _ 24 _ LVDS2A_12p /CLK_2A_1p, AG15 IO_ 2A _ 25 _ LVDS2A_12n /CLK_2A_1n, AG16 IO_ 2A _ 26 _ LVDS2A_11p /RZQ_2A, AG18 IO_ 2A _ 34 _ LVDS2A_7p , W15 VREFB2AN0, Y15 IO_ 2A _ 13 _ LVDS2A_18n , Y16 IO_ 2A _ 12 _ LVDS2A_18p 
part O pins: C16 IO_ 2L _ 3 _ DIFFIO2L_23n , C17 IO_ 2L _ 2 _ DIFFIO2L_23p , C18 IO_ 2L _ 0 _ DIFFIO2L_24p , C22 IO_ 2L _ 29 _ DIFFIO2L_10n /PLL_2L_CLKOUT1n, C23 IO_ 2L _ 28 _ DIFFIO2L_10p /PLL_2L_CLKOUT1p,PLL_2L_CLKOUT1,PLL_2L_FB1, D17 IO_ 2L _ 1 _ DIFFIO2L_24n , D18 IO_ 2L _ 11 _ DIFFIO2L_19n , D19 IO_ 2L _ 10 _ DIFFIO2L_19p , D20 IO_ 2L _ 4 _ DIFFIO2L_22p , D22 IO_ 2L _ 34 _ DIFFIO2L_7p , D23 IO_ 2L _ 32 _ DIFFIO2L_8p , E16 IO_ 2L _ 8 _ DIFFIO2L_20p , E17 IO_ 2L _ 9 _ DIFFIO2L_20n , E18 VCCIO2L_1, E19 IO_ 2L _ 6 _ DIFFIO2L_21p , E20 IO_ 2L _ 5 _ DIFFIO2L_22n , E21 IO_ 2L _ 35 _ DIFFIO2L_7n , E22 IO_ 2L _ 30 _ DIFFIO2L_9p , E23 IO_ 2L _ 33 _ DIFFIO2L_8n , F17 IO_ 2L _ 40 _ DIFFIO2L_4p , F18 IO_ 2L _ 41 _ DIFFIO2L_4n , F19 IO_ 2L _ 7 _ DIFFIO2L_21n , F21 IO_ 2L _ 26 _ DIFFIO2L_11p /RZQ_2L, F22 IO_ 2L _ 31 _ DIFFIO2L_9n , F23 IO_ 2L _ 24 _ DIFFIO2L_12p /CLK_2L_1p, G18 IO_ 2L _ 38 _ DIFFIO2L_5p , G19 IO_ 2L _ 37 _ DIFFIO2L_6n , G20 IO_ 2L _ 36 _ DIFFIO2L_6p , G21 IO_ 2L _ 27 _ DIFFIO2L_11n , G23 IO_ 2L _ 25 _ DIFFIO2L_12n /CLK_2L_1n, H16 IO_ 2L _ 47 _ DIFFIO2L_1n , H17 IO_ 2L _ 46 _ DIFFIO2L_1p , H18 IO_ 2L _ 39 _ DIFFIO2L_5n , H19 VCCIO2L_2, H20 IO_ 2L _ 16 _ DIFFIO2L_16p , H21 IO_ 2L _ 17 _ DIFFIO2L_16n , H22 IO_ 2L _ 19 _ DIFFIO2L_15n /PLL_2L_CLKOUT0n, H23 IO_ 2L _ 23 _ DIFFIO2L_13n /CLK_2L_0n, J17 IO_ 2L _ 42 _ DIFFIO2L_3p , J18 IO_ 2L _ 44 _ DIFFIO2L_2p , J19 IO_ 2L _ 45 _ DIFFIO2L_2n , J20 IO_ 2L _ 20 _ DIFFIO2L_14p , J22 IO_ 2L _ 18 _ DIFFIO2L_15p /PLL_2L_CLKOUT0p,PLL_2L_CLKOUT0,PLL_2L_FB0, J23 IO_ 2L _ 22 _ DIFFIO2L_13p /CLK_2L_0p, K16 VREFB2LN0, K17 IO_ 2L _ 43 _ DIFFIO2L_3n , K18 VCCIO2L_3, K19 IO_ 2L _ 14 _ DIFFIO2L_17p , K20 IO_ 2L _ 15 _ DIFFIO2L_17n , K21 IO_ 2L _ 21 _ DIFFIO2L_14n , K22 IO_ 2L _ 13 _ DIFFIO2L_18n , K23 IO_ 2L _ 12 _ DIFFIO2L_18p 
part A text: GND1
part B text: GND2
part C text: NC Pins
part D text: Power Core
part E text: Power XCVR
part F text: ADC
part G text: Configuration
part H text: XCVR BANK 1D
part I text: XCVR BANK 1C
part J text: XCVR BANK 2K
part K text: IO BANK 2J, 1.8V
part L text: IO BANK 3A, 1.8V
part M text: IO BANK 3B, 1.8V
part N text: IO BANK 2A, 1.8V
part O text: IO BANK 2L, 3V